# Altium integrated library dc-dc.IntLib: 4 symbols
Pins are listed as number, name and electrical type; pins without a type are passive.

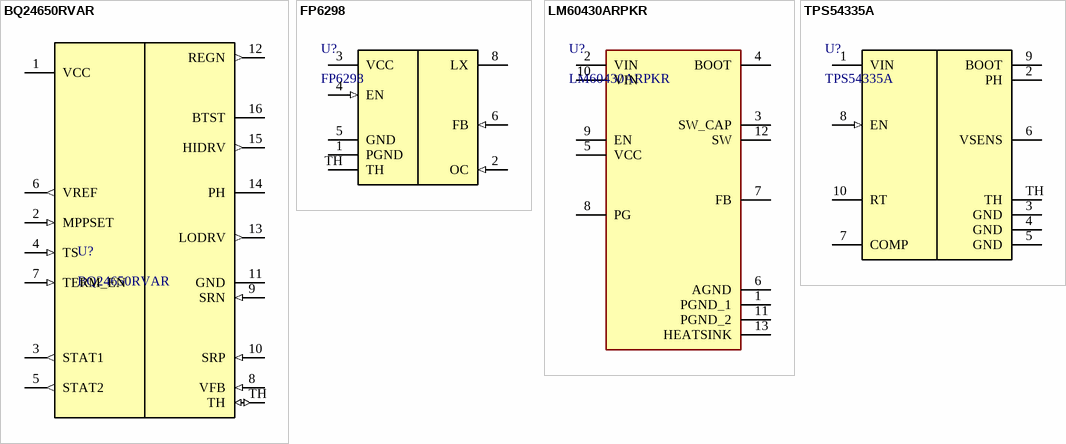
[diagram p0: symbols BQ24650RVAR to TPS54335A]

## BQ24650RVAR
designator U?
MPPT charger
footprint QFN-16(3,5x3,5)
pins: 1 VCC (power), 2 MPPSET (in), 3 STAT1 (out), 4 TS (in), 5 STAT2 (out), 6 VREF (out), 7 TERM_EN (in), 8 VFB (in), 9 SRN (in), 10 SRP (in), 11 GND (power), 12 REGN (out), 13 LODRV (out), 14 PH (power), 15 HIDRV (out), 16 BTST (power), TH (io)

## FP6298
designator U?
boost not-synq wEN woPG wCL
footprint SO-8(EP) (Small Outline; 8 Leads; Body Width 3.9 mm; Pitch 1.27 mm)
pins: 1 PGND (power), 2 OC (in), 3 VCC (power), 4 EN (in), 5 GND (power), 6 FB (in), 8 LX (power), TH (power)

## LM60430ARPKR
designator U?
Buck 3A; Manufacturer_Name: Texas Instruments; Datasheet Link: https://www.ti.com/lit/ds/symlink/lm60430.pdf?ts=1607209467482; Height: 0.7mm; Manufacturer_Part_Number: LM60430ARPKR; Mouser Part Number: 595-LM60430ARPKR; Mouser Price/Stock: https://www.mouser.co.uk/ProductDetail/Texas-Instruments/LM60430ARPKR?qs=bAKSY%2FctAC5Dkeh3l7Dbkw%3D%3D; Arrow Part Number: LM60430ARPKR; Arrow Price/Stock: https://www.arrow.com/en/products/lm60430arpkr/texas-instruments?region=nac
footprint WQFN-13
pins: 1 PGND_1, 2 VIN, 3 SW_CAP, 4 BOOT, 5 VCC, 6 AGND, 7 FB, 8 PG, 9 EN, 10 VIN, 11 PGND_2, 12 SW, 13 HEATSINK

## TPS54335A
designator U?
buck sync wEN woPG
footprint VSON-10
pins: 1 VIN (power), 2 PH (power), 3 GND (power), 4 GND (power), 5 GND (power), 6 VSENS (power), 7 COMP (power), 8 EN (in), 9 BOOT (power), 10 RT (power), TH (power)